# Altium schematic symbol library LVDT2.SchLib: 1 symbol
Pins are listed as number, name and electrical type; pins without a type are passive.

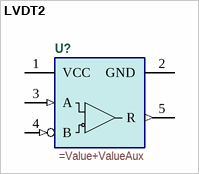
[diagram p0: symbol LVDT2]

## LVDT2
designator U?
=Description
pins: 1 VCC (power), 2 GND (power), 3 A (in), 4 B (in), 5 R (out)